# Altium footprint library rt10.PcbLib: 51 footprints (part 4 of 4)
Each footprint in its own frame and in the unit in brackets; x right, y up, seen from the top. Pads: shape width x height; smd on the part's side, far side on the other; paste and mask are expansions set on the pad; w line width, h text height; cw(c..) or ccw(c..) is an arc to the next point about the centre after c.
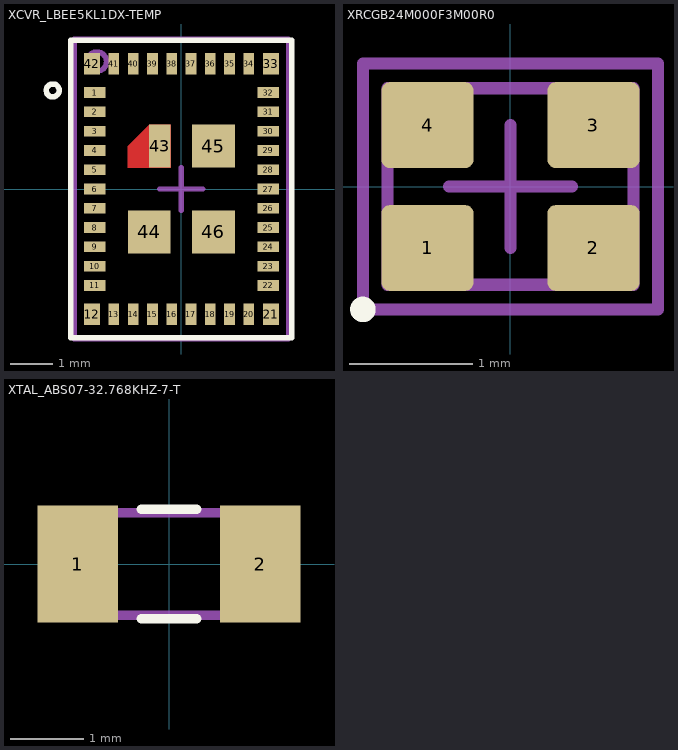
[diagram p3: the footprints below, top view; thin cyan lines are the x and y axes]

## XCVR_LBEE5KL1DX-TEMP [mm] "XCVR_LBEE5KL1DX-TEMP"
pads (46):
  rect 0.5x0.25 smd: 1(-2.025,2.25) 2(-2.025,1.8) 3(-2.025,1.35) 4(-2.025,0.9) 5(-2.025,0.45) 6(-2.025,0) 7(-2.025,-0.45) 8(-2.025,-0.9) 9(-2.025,-1.35) 10(-2.025,-1.8) 11(-2.025,-2.25) 22(2.025,-2.25) 23(2.025,-1.8) 24(2.025,-1.35) 25(2.025,-0.9) 26(2.025,-0.45) 27(2.025,0) 28(2.025,0.45) 29(2.025,0.9) 30(2.025,1.35) 31(2.025,1.8) 32(2.025,2.25)
  rect 0.375x0.5 smd: 12(-2.088,-2.925) 21(2.088,-2.925) 33(2.088,2.925) 42(-2.088,2.925)
  rect 0.25x0.5 smd: 13(-1.575,-2.925) 14(-1.125,-2.925) 15(-0.675,-2.925) 16(-0.225,-2.925) 17(0.225,-2.925) 18(0.675,-2.925) 19(1.125,-2.925) 20(1.575,-2.925) 34(1.575,2.925) 35(1.125,2.925) 36(0.675,2.925) 37(0.225,2.925) 38(-0.225,2.925) 39(-0.675,2.925) 40(-1.125,2.925) 41(-1.575,2.925)
  rect 0.5x1 smd paste+0 mask+0: 43(-0.5,1)
  rect 1x1 smd: 44(-0.75,-1) 45(0.75,1) 46(0.75,-1)
Top Layer:
  region: -0.75,1.5 -0.25,1.5 -0.25,0.5 -1.25,0.5 -1.25,1
Top Overlay:
  circle w0.127: c-3,2.3 r0.15
  lines w0.127: -2.575,-3.475 2.575,-3.475 2.575,3.475 -2.575,3.475 -2.575,-3.475
Top Paste:
  region: -0.75,1.5 -0.25,1.5 -0.25,0.5 -1.25,0.5 -1.25,1
Top Solder:
  region: -1.351,1.601 -0.152,1.601 -0.152,0.399 -1.351,0.399
Mechanical 13:
  circle w0.127: c-1.968,2.973 r0.224
  lines w0.127: -0.5,0 0,0 ; 0,-0.5 0,0 ; 0,0.5 0,0 ; 0.5,0 0,0 ; -2.5,-3.5 -2.5,3.5 2.5,3.5 2.5,-3.5 -2.5,-3.5
3D body: height 1.1, standoff 0, extent -2.5,-3.5 2.5,3.5

## XRCGB24M000F3M00R0 [mm] "XRCGB24M000F3M00R0"
pads (4):
  rrect20% 0.75x0.7 smd mask+0.05: 1(-0.675,-0.5) 2(0.675,-0.5) 3(0.675,0.5) 4(-0.675,0.5)
Top Overlay:
  circle w0.127: c-1.2,-1 r0.04
Mechanical 13:
  circle w0.1: c-0.6,-0.4 r0.1
  lines w0.1: -0.5,0 0,0 ; 0,-0.5 0,0 ; 0,0.5 0,0 ; 0.5,0 0,0 ; 0,0 0,0 ; -1,-0.8 1,-0.8 1,0.8 -1,0.8 -1,-0.8
  text ".designator" at -0.8,1 h0.4
Mechanical 15:
  circle w0.1: c-0.6,-0.4 r0.1
  lines w0.1: -0.5,0 0,0 ; 0,-0.5 0,0 ; 0,0.5 0,0 ; 0.5,0 0,0 ; 0,0 0,0 ; -1.2,-1 -1.2,1 1.2,1 1.2,-1 -1.2,-1
3D body: height 0.65, standoff 0, extent -1,-0.8 1,0.8

## XTAL_ABS07-32.768KHZ-7-T [mm] "XTAL_ABS07-32.768KHZ-7-T"
pads (2):
  rect 1.1x1.6 smd: 1(-1.25,0) 2(1.25,0)
Top Overlay:
  lines w0.127: -0.38,-0.75 0.38,-0.75 ; -0.38,0.75 0.38,0.75
Mechanical 13:
  lines w0.127: -1.6,-0.7 1.6,-0.7 1.6,0.7 -1.6,0.7 -1.6,-0.7
  text ".designator" at -1.4,-0.85 h0.64
3D body: height 1, standoff 0, extent -1.6,-0.7 1.6,0.7